# Altium integrated library WD Video Controller.IntLib: 21 symbols
Pins are listed as number, name and electrical type; pins without a type are passive.

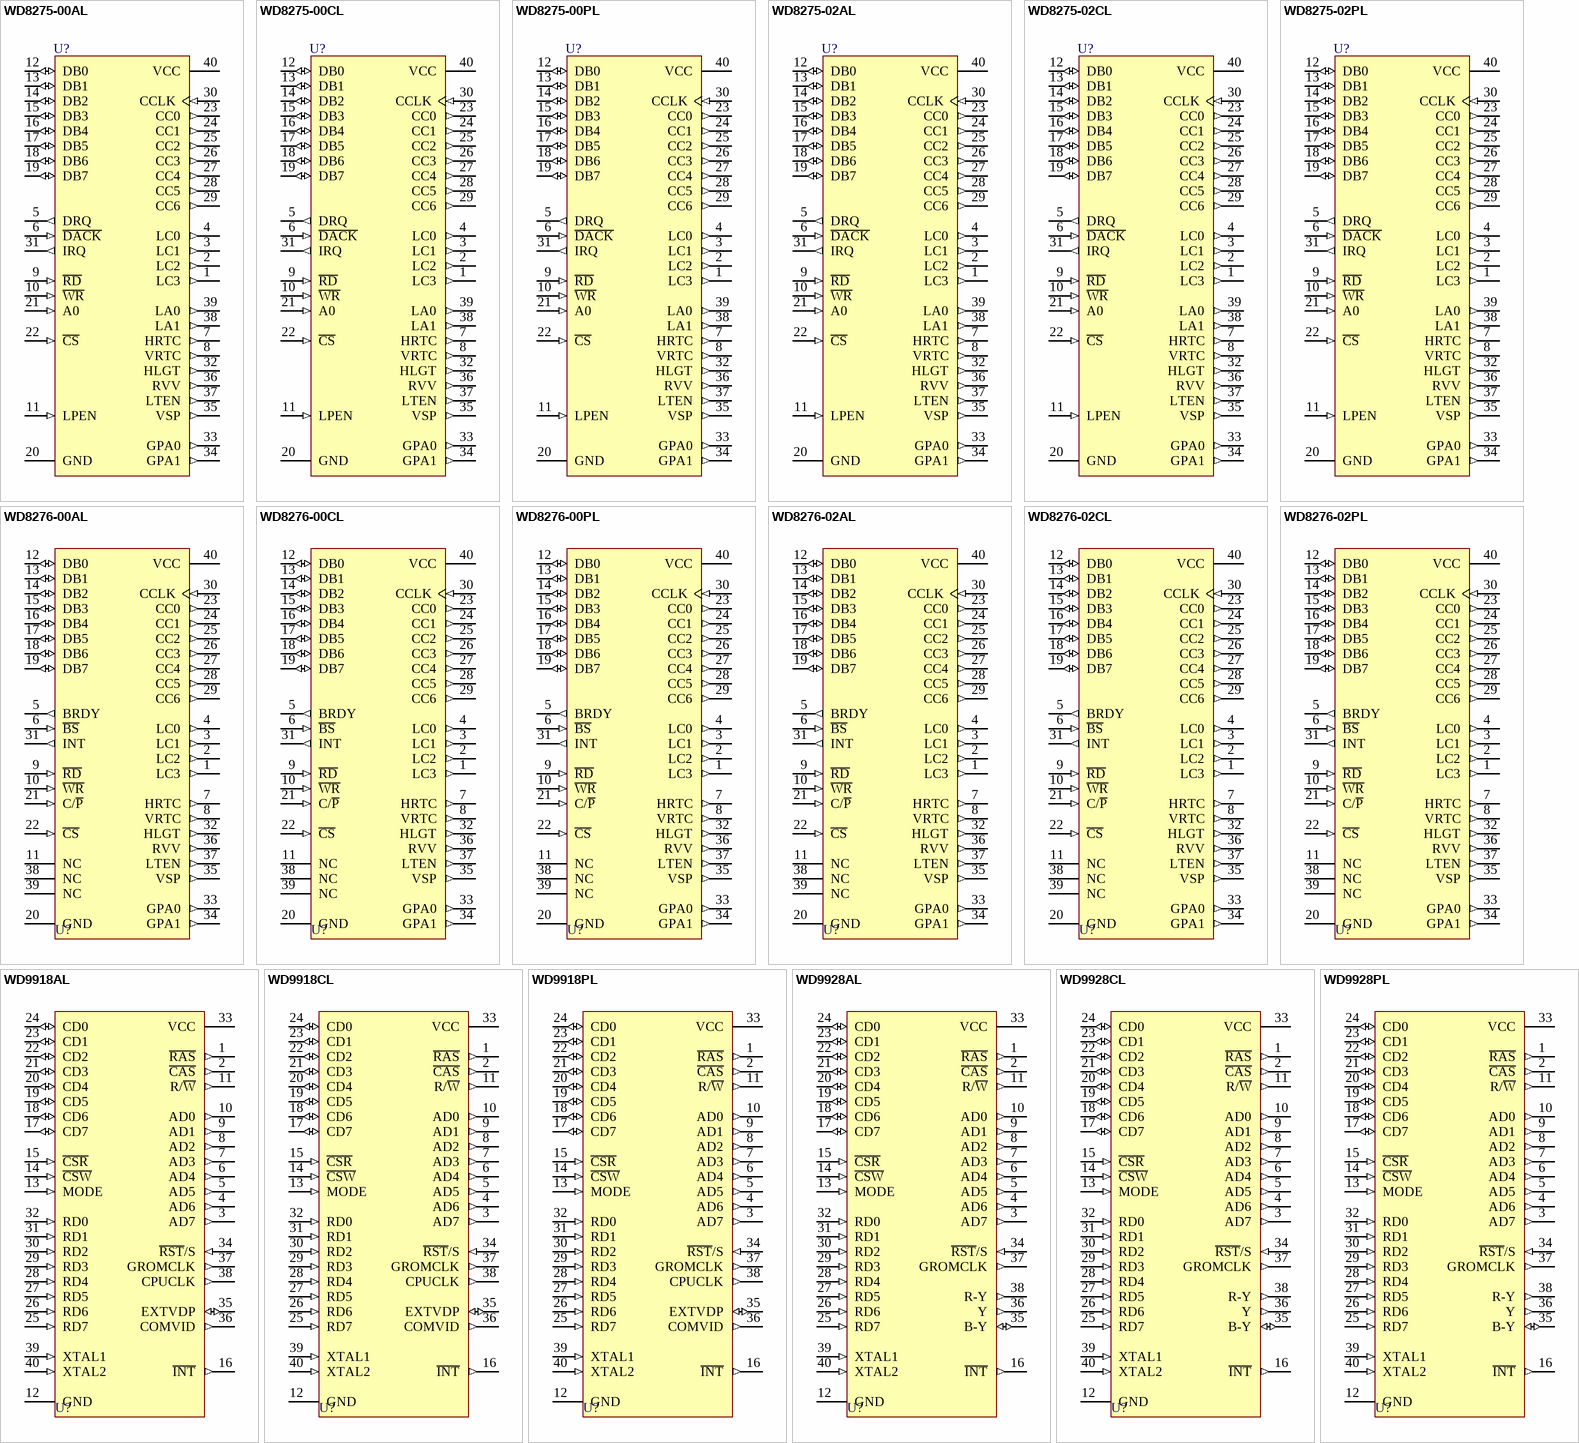
[diagram p0: symbols WD8275-00AL to WD9928PL]

## WD8275-00AL
designator U?
Programmable CRT Controller; PackageDocument: 1984; Published: 8-Jun-2000; LatestRevisionDate: 4-Mar-2005; LatestRevisionNote: Stylized 3D Model Added.; DatasheetDocument: 1984; PackageReference: AL40; Publisher: Altium Limited; ComponentLink1Description: Manufacturer Link; ComponentLink1URL: http://www.wdc.com/
footprint AL40 (DIP; 40 Leads; Row Spacing 15.24 mm; Pitch 2.54 mm)
3D model AL40 (DIP; 40 Leads; Row Spacing 15.24 mm; Pitch 2.54 mm)
pins: 1 LC3 (out), 2 LC2 (out), 3 LC1 (out), 4 LC0 (out), 5 DRQ (out), 6 ~{DACK} (in), 7 HRTC (out), 8 VRTC (out), 9 ~{RD} (in), 10 ~{WR} (in), 11 LPEN (in), 12 DB0 (io), 13 DB1 (io), 14 DB2 (io), 15 DB3 (io), 16 DB4 (io), 17 DB5 (io), 18 DB6 (io), 19 DB7 (io), 20 GND (power), 21 A0 (in), 22 ~{CS} (in), 23 CC0 (out), 24 CC1 (out), 25 CC2 (out), 26 CC3 (out), 27 CC4 (out), 28 CC5 (out), 29 CC6 (out), 30 CCLK (in), 31 IRQ (out), 32 HLGT (out), 33 GPA0 (out), 34 GPA1 (out), 35 VSP (out), 36 RVV (out), 37 LTEN (out), 38 LA1 (out), 39 LA0 (out), 40 VCC (power)

## WD8275-00CL
designator U?
Programmable CRT Controller; PackageDocument: 1984; Published: 8-Jun-2000; LatestRevisionDate: 4-Mar-2005; LatestRevisionNote: Stylized 3D Model Added.; DatasheetDocument: 1984; PackageReference: CL40; Publisher: Altium Limited; ComponentLink1Description: Manufacturer Link; ComponentLink1URL: http://www.wdc.com/
footprint CL40 (DIP; 40 Leads; Row Spacing 15.24 mm; Pitch 2.54 mm)
3D model PL40 (DIP; 40 Leads; Row Spacing 15.24 mm; Pitch 2.54 mm)
pins: 1 LC3 (out), 2 LC2 (out), 3 LC1 (out), 4 LC0 (out), 5 DRQ (out), 6 ~{DACK} (in), 7 HRTC (out), 8 VRTC (out), 9 ~{RD} (in), 10 ~{WR} (in), 11 LPEN (in), 12 DB0 (io), 13 DB1 (io), 14 DB2 (io), 15 DB3 (io), 16 DB4 (io), 17 DB5 (io), 18 DB6 (io), 19 DB7 (io), 20 GND (power), 21 A0 (in), 22 ~{CS} (in), 23 CC0 (out), 24 CC1 (out), 25 CC2 (out), 26 CC3 (out), 27 CC4 (out), 28 CC5 (out), 29 CC6 (out), 30 CCLK (in), 31 IRQ (out), 32 HLGT (out), 33 GPA0 (out), 34 GPA1 (out), 35 VSP (out), 36 RVV (out), 37 LTEN (out), 38 LA1 (out), 39 LA0 (out), 40 VCC (power)

## WD8275-00PL
designator U?
Programmable CRT Controller; PackageDocument: 1984; Published: 8-Jun-2000; LatestRevisionDate: 4-Mar-2005; LatestRevisionNote: Stylized 3D Model Added.; DatasheetDocument: 1984; PackageReference: PL40; Publisher: Altium Limited; ComponentLink1Description: Manufacturer Link; ComponentLink1URL: http://www.wdc.com/
footprint PL40 (DIP; 40 Leads; Row Spacing 15.24 mm; Pitch 2.54 mm)
3D model PL40 (DIP; 40 Leads; Row Spacing 15.24 mm; Pitch 2.54 mm)
pins: 1 LC3 (out), 2 LC2 (out), 3 LC1 (out), 4 LC0 (out), 5 DRQ (out), 6 ~{DACK} (in), 7 HRTC (out), 8 VRTC (out), 9 ~{RD} (in), 10 ~{WR} (in), 11 LPEN (in), 12 DB0 (io), 13 DB1 (io), 14 DB2 (io), 15 DB3 (io), 16 DB4 (io), 17 DB5 (io), 18 DB6 (io), 19 DB7 (io), 20 GND (power), 21 A0 (in), 22 ~{CS} (in), 23 CC0 (out), 24 CC1 (out), 25 CC2 (out), 26 CC3 (out), 27 CC4 (out), 28 CC5 (out), 29 CC6 (out), 30 CCLK (in), 31 IRQ (out), 32 HLGT (out), 33 GPA0 (out), 34 GPA1 (out), 35 VSP (out), 36 RVV (out), 37 LTEN (out), 38 LA1 (out), 39 LA0 (out), 40 VCC (power)

## WD8275-02AL
designator U?
Programmable CRT Controller; PackageDocument: 1984; Published: 8-Jun-2000; LatestRevisionDate: 4-Mar-2005; LatestRevisionNote: Stylized 3D Model Added.; DatasheetDocument: 1984; PackageReference: AL40; Publisher: Altium Limited; ComponentLink1Description: Manufacturer Link; ComponentLink1URL: http://www.wdc.com/
footprint AL40 (DIP; 40 Leads; Row Spacing 15.24 mm; Pitch 2.54 mm)
3D model AL40 (DIP; 40 Leads; Row Spacing 15.24 mm; Pitch 2.54 mm)
pins: 1 LC3 (out), 2 LC2 (out), 3 LC1 (out), 4 LC0 (out), 5 DRQ (out), 6 ~{DACK} (in), 7 HRTC (out), 8 VRTC (out), 9 ~{RD} (in), 10 ~{WR} (in), 11 LPEN (in), 12 DB0 (io), 13 DB1 (io), 14 DB2 (io), 15 DB3 (io), 16 DB4 (io), 17 DB5 (io), 18 DB6 (io), 19 DB7 (io), 20 GND (power), 21 A0 (in), 22 ~{CS} (in), 23 CC0 (out), 24 CC1 (out), 25 CC2 (out), 26 CC3 (out), 27 CC4 (out), 28 CC5 (out), 29 CC6 (out), 30 CCLK (in), 31 IRQ (out), 32 HLGT (out), 33 GPA0 (out), 34 GPA1 (out), 35 VSP (out), 36 RVV (out), 37 LTEN (out), 38 LA1 (out), 39 LA0 (out), 40 VCC (power)

## WD8275-02CL
designator U?
Programmable CRT Controller; PackageDocument: 1984; Published: 8-Jun-2000; LatestRevisionDate: 4-Mar-2005; LatestRevisionNote: Stylized 3D Model Added.; DatasheetDocument: 1984; PackageReference: CL40; Publisher: Altium Limited; ComponentLink1Description: Manufacturer Link; ComponentLink1URL: http://www.wdc.com/
footprint CL40 (DIP; 40 Leads; Row Spacing 15.24 mm; Pitch 2.54 mm)
3D model PL40 (DIP; 40 Leads; Row Spacing 15.24 mm; Pitch 2.54 mm)
pins: 1 LC3 (out), 2 LC2 (out), 3 LC1 (out), 4 LC0 (out), 5 DRQ (out), 6 ~{DACK} (in), 7 HRTC (out), 8 VRTC (out), 9 ~{RD} (in), 10 ~{WR} (in), 11 LPEN (in), 12 DB0 (io), 13 DB1 (io), 14 DB2 (io), 15 DB3 (io), 16 DB4 (io), 17 DB5 (io), 18 DB6 (io), 19 DB7 (io), 20 GND (power), 21 A0 (in), 22 ~{CS} (in), 23 CC0 (out), 24 CC1 (out), 25 CC2 (out), 26 CC3 (out), 27 CC4 (out), 28 CC5 (out), 29 CC6 (out), 30 CCLK (in), 31 IRQ (out), 32 HLGT (out), 33 GPA0 (out), 34 GPA1 (out), 35 VSP (out), 36 RVV (out), 37 LTEN (out), 38 LA1 (out), 39 LA0 (out), 40 VCC (power)

## WD8275-02PL
designator U?
Programmable CRT Controller; PackageDocument: 1984; Published: 8-Jun-2000; LatestRevisionDate: 4-Mar-2005; LatestRevisionNote: Stylized 3D Model Added.; DatasheetDocument: 1984; PackageReference: PL40; Publisher: Altium Limited; ComponentLink1Description: Manufacturer Link; ComponentLink1URL: http://www.wdc.com/
footprint PL40 (DIP; 40 Leads; Row Spacing 15.24 mm; Pitch 2.54 mm)
3D model PL40 (DIP; 40 Leads; Row Spacing 15.24 mm; Pitch 2.54 mm)
pins: 1 LC3 (out), 2 LC2 (out), 3 LC1 (out), 4 LC0 (out), 5 DRQ (out), 6 ~{DACK} (in), 7 HRTC (out), 8 VRTC (out), 9 ~{RD} (in), 10 ~{WR} (in), 11 LPEN (in), 12 DB0 (io), 13 DB1 (io), 14 DB2 (io), 15 DB3 (io), 16 DB4 (io), 17 DB5 (io), 18 DB6 (io), 19 DB7 (io), 20 GND (power), 21 A0 (in), 22 ~{CS} (in), 23 CC0 (out), 24 CC1 (out), 25 CC2 (out), 26 CC3 (out), 27 CC4 (out), 28 CC5 (out), 29 CC6 (out), 30 CCLK (in), 31 IRQ (out), 32 HLGT (out), 33 GPA0 (out), 34 GPA1 (out), 35 VSP (out), 36 RVV (out), 37 LTEN (out), 38 LA1 (out), 39 LA0 (out), 40 VCC (power)

## WD8276-00AL
designator U?
Small System CRT Controller; PackageDocument: 1984; Published: 8-Jun-2000; LatestRevisionDate: 4-Mar-2005; LatestRevisionNote: Stylized 3D Model Added.; DatasheetDocument: 1984; PackageReference: AL40; Publisher: Altium Limited; ComponentLink1Description: Manufacturer Link; ComponentLink1URL: http://www.wdc.com/
footprint AL40 (DIP; 40 Leads; Row Spacing 15.24 mm; Pitch 2.54 mm)
3D model AL40 (DIP; 40 Leads; Row Spacing 15.24 mm; Pitch 2.54 mm)
pins: 1 LC3 (out), 2 LC2 (out), 3 LC1 (out), 4 LC0 (out), 5 BRDY (out), 6 ~{BS} (in), 7 HRTC (out), 8 VRTC (out), 9 ~{RD} (in), 10 ~{WR} (in), 11 NC, 12 DB0 (io), 13 DB1 (io), 14 DB2 (io), 15 DB3 (io), 16 DB4 (io), 17 DB5 (io), 18 DB6 (io), 19 DB7 (io), 20 GND (power), 21 C/~{P} (in), 22 ~{CS} (in), 23 CC0 (out), 24 CC1 (out), 25 CC2 (out), 26 CC3 (out), 27 CC4 (out), 28 CC5 (out), 29 CC6 (out), 30 CCLK (in), 31 INT (out), 32 HLGT (out), 33 GPA0 (out), 34 GPA1 (out), 35 VSP (out), 36 RVV (out), 37 LTEN (out), 38 NC, 39 NC, 40 VCC (power)

## WD8276-00CL
designator U?
Small System CRT Controller; PackageDocument: 1984; Published: 8-Jun-2000; LatestRevisionDate: 4-Mar-2005; LatestRevisionNote: Stylized 3D Model Added.; DatasheetDocument: 1984; PackageReference: CL40; Publisher: Altium Limited; ComponentLink1Description: Manufacturer Link; ComponentLink1URL: http://www.wdc.com/
footprint CL40 (DIP; 40 Leads; Row Spacing 15.24 mm; Pitch 2.54 mm)
3D model PL40 (DIP; 40 Leads; Row Spacing 15.24 mm; Pitch 2.54 mm)
pins: 1 LC3 (out), 2 LC2 (out), 3 LC1 (out), 4 LC0 (out), 5 BRDY (out), 6 ~{BS} (in), 7 HRTC (out), 8 VRTC (out), 9 ~{RD} (in), 10 ~{WR} (in), 11 NC, 12 DB0 (io), 13 DB1 (io), 14 DB2 (io), 15 DB3 (io), 16 DB4 (io), 17 DB5 (io), 18 DB6 (io), 19 DB7 (io), 20 GND (power), 21 C/~{P} (in), 22 ~{CS} (in), 23 CC0 (out), 24 CC1 (out), 25 CC2 (out), 26 CC3 (out), 27 CC4 (out), 28 CC5 (out), 29 CC6 (out), 30 CCLK (in), 31 INT (out), 32 HLGT (out), 33 GPA0 (out), 34 GPA1 (out), 35 VSP (out), 36 RVV (out), 37 LTEN (out), 38 NC, 39 NC, 40 VCC (power)

## WD8276-00PL
designator U?
Small System CRT Controller; PackageDocument: 1984; Published: 8-Jun-2000; LatestRevisionDate: 4-Mar-2005; LatestRevisionNote: Stylized 3D Model Added.; DatasheetDocument: 1984; PackageReference: PL40; Publisher: Altium Limited; ComponentLink1Description: Manufacturer Link; ComponentLink1URL: http://www.wdc.com/
footprint PL40 (DIP; 40 Leads; Row Spacing 15.24 mm; Pitch 2.54 mm)
3D model PL40 (DIP; 40 Leads; Row Spacing 15.24 mm; Pitch 2.54 mm)
pins: 1 LC3 (out), 2 LC2 (out), 3 LC1 (out), 4 LC0 (out), 5 BRDY (out), 6 ~{BS} (in), 7 HRTC (out), 8 VRTC (out), 9 ~{RD} (in), 10 ~{WR} (in), 11 NC, 12 DB0 (io), 13 DB1 (io), 14 DB2 (io), 15 DB3 (io), 16 DB4 (io), 17 DB5 (io), 18 DB6 (io), 19 DB7 (io), 20 GND (power), 21 C/~{P} (in), 22 ~{CS} (in), 23 CC0 (out), 24 CC1 (out), 25 CC2 (out), 26 CC3 (out), 27 CC4 (out), 28 CC5 (out), 29 CC6 (out), 30 CCLK (in), 31 INT (out), 32 HLGT (out), 33 GPA0 (out), 34 GPA1 (out), 35 VSP (out), 36 RVV (out), 37 LTEN (out), 38 NC, 39 NC, 40 VCC (power)

## WD8276-02AL
designator U?
Small System CRT Controller; PackageDocument: 1984; Published: 8-Jun-2000; LatestRevisionDate: 4-Mar-2005; LatestRevisionNote: Stylized 3D Model Added.; DatasheetDocument: 1984; PackageReference: AL40; Publisher: Altium Limited; ComponentLink1Description: Manufacturer Link; ComponentLink1URL: http://www.wdc.com/
footprint AL40 (DIP; 40 Leads; Row Spacing 15.24 mm; Pitch 2.54 mm)
3D model AL40 (DIP; 40 Leads; Row Spacing 15.24 mm; Pitch 2.54 mm)
pins: 1 LC3 (out), 2 LC2 (out), 3 LC1 (out), 4 LC0 (out), 5 BRDY (out), 6 ~{BS} (in), 7 HRTC (out), 8 VRTC (out), 9 ~{RD} (in), 10 ~{WR} (in), 11 NC, 12 DB0 (io), 13 DB1 (io), 14 DB2 (io), 15 DB3 (io), 16 DB4 (io), 17 DB5 (io), 18 DB6 (io), 19 DB7 (io), 20 GND (power), 21 C/~{P} (in), 22 ~{CS} (in), 23 CC0 (out), 24 CC1 (out), 25 CC2 (out), 26 CC3 (out), 27 CC4 (out), 28 CC5 (out), 29 CC6 (out), 30 CCLK (in), 31 INT (out), 32 HLGT (out), 33 GPA0 (out), 34 GPA1 (out), 35 VSP (out), 36 RVV (out), 37 LTEN (out), 38 NC, 39 NC, 40 VCC (power)

## WD8276-02CL
designator U?
Small System CRT Controller; PackageDocument: 1984; Published: 8-Jun-2000; LatestRevisionDate: 4-Mar-2005; LatestRevisionNote: Stylized 3D Model Added.; DatasheetDocument: 1984; PackageReference: CL40; Publisher: Altium Limited; ComponentLink1Description: Manufacturer Link; ComponentLink1URL: http://www.wdc.com/
footprint CL40 (DIP; 40 Leads; Row Spacing 15.24 mm; Pitch 2.54 mm)
3D model PL40 (DIP; 40 Leads; Row Spacing 15.24 mm; Pitch 2.54 mm)
pins: 1 LC3 (out), 2 LC2 (out), 3 LC1 (out), 4 LC0 (out), 5 BRDY (out), 6 ~{BS} (in), 7 HRTC (out), 8 VRTC (out), 9 ~{RD} (in), 10 ~{WR} (in), 11 NC, 12 DB0 (io), 13 DB1 (io), 14 DB2 (io), 15 DB3 (io), 16 DB4 (io), 17 DB5 (io), 18 DB6 (io), 19 DB7 (io), 20 GND (power), 21 C/~{P} (in), 22 ~{CS} (in), 23 CC0 (out), 24 CC1 (out), 25 CC2 (out), 26 CC3 (out), 27 CC4 (out), 28 CC5 (out), 29 CC6 (out), 30 CCLK (in), 31 INT (out), 32 HLGT (out), 33 GPA0 (out), 34 GPA1 (out), 35 VSP (out), 36 RVV (out), 37 LTEN (out), 38 NC, 39 NC, 40 VCC (power)

## WD8276-02PL
designator U?
Small System CRT Controller; PackageDocument: 1984; Published: 8-Jun-2000; LatestRevisionDate: 4-Mar-2005; LatestRevisionNote: Stylized 3D Model Added.; DatasheetDocument: 1984; PackageReference: PL40; Publisher: Altium Limited; ComponentLink1Description: Manufacturer Link; ComponentLink1URL: http://www.wdc.com/
footprint PL40 (DIP; 40 Leads; Row Spacing 15.24 mm; Pitch 2.54 mm)
3D model PL40 (DIP; 40 Leads; Row Spacing 15.24 mm; Pitch 2.54 mm)
pins: 1 LC3 (out), 2 LC2 (out), 3 LC1 (out), 4 LC0 (out), 5 BRDY (out), 6 ~{BS} (in), 7 HRTC (out), 8 VRTC (out), 9 ~{RD} (in), 10 ~{WR} (in), 11 NC, 12 DB0 (io), 13 DB1 (io), 14 DB2 (io), 15 DB3 (io), 16 DB4 (io), 17 DB5 (io), 18 DB6 (io), 19 DB7 (io), 20 GND (power), 21 C/~{P} (in), 22 ~{CS} (in), 23 CC0 (out), 24 CC1 (out), 25 CC2 (out), 26 CC3 (out), 27 CC4 (out), 28 CC5 (out), 29 CC6 (out), 30 CCLK (in), 31 INT (out), 32 HLGT (out), 33 GPA0 (out), 34 GPA1 (out), 35 VSP (out), 36 RVV (out), 37 LTEN (out), 38 NC, 39 NC, 40 VCC (power)

## WD9918AL
designator U?
Video Display Processor; PackageDocument: 1984; Published: 8-Jun-2000; LatestRevisionDate: 4-Mar-2005; LatestRevisionNote: Stylized 3D Model Added.; DatasheetDocument: 1984; PackageReference: AL40; Publisher: Altium Limited; ComponentLink1Description: Manufacturer Link; ComponentLink1URL: http://www.wdc.com/
footprint AL40 (DIP; 40 Leads; Row Spacing 15.24 mm; Pitch 2.54 mm)
3D model AL40 (DIP; 40 Leads; Row Spacing 15.24 mm; Pitch 2.54 mm)
pins: 1 ~{RAS} (out), 2 ~{CAS} (out), 3 AD7 (out), 4 AD6 (out), 5 AD5 (out), 6 AD4 (out), 7 AD3 (out), 8 AD2 (out), 9 AD1 (out), 10 AD0 (out), 11 R/~{W} (out), 12 GND (power), 13 MODE (in), 14 ~{CSW} (in), 15 ~{CSR} (in), 16 ~{INT} (out), 17 CD7 (io), 18 CD6 (io), 19 CD5 (io), 20 CD4 (io), 21 CD3 (io), 22 CD2 (io), 23 CD1 (io), 24 CD0 (io), 25 RD7 (in), 26 RD6 (in), 27 RD5 (in), 28 RD4 (in), 29 RD3 (in), 30 RD2 (in), 31 RD1 (in), 32 RD0 (in), 33 VCC (power), 34 ~{RST}/S (in), 35 EXTVDP (io), 36 COMVID (out), 37 GROMCLK (out), 38 CPUCLK (out), 39 XTAL1 (in), 40 XTAL2 (in)

## WD9918CL
designator U?
Video Display Processor; PackageDocument: 1984; Published: 8-Jun-2000; LatestRevisionDate: 4-Mar-2005; LatestRevisionNote: Stylized 3D Model Added.; DatasheetDocument: 1984; PackageReference: CL40; Publisher: Altium Limited; ComponentLink1Description: Manufacturer Link; ComponentLink1URL: http://www.wdc.com/
footprint CL40 (DIP; 40 Leads; Row Spacing 15.24 mm; Pitch 2.54 mm)
3D model PL40 (DIP; 40 Leads; Row Spacing 15.24 mm; Pitch 2.54 mm)
pins: 1 ~{RAS} (out), 2 ~{CAS} (out), 3 AD7 (out), 4 AD6 (out), 5 AD5 (out), 6 AD4 (out), 7 AD3 (out), 8 AD2 (out), 9 AD1 (out), 10 AD0 (out), 11 R/~{W} (out), 12 GND (power), 13 MODE (in), 14 ~{CSW} (in), 15 ~{CSR} (in), 16 ~{INT} (out), 17 CD7 (io), 18 CD6 (io), 19 CD5 (io), 20 CD4 (io), 21 CD3 (io), 22 CD2 (io), 23 CD1 (io), 24 CD0 (io), 25 RD7 (in), 26 RD6 (in), 27 RD5 (in), 28 RD4 (in), 29 RD3 (in), 30 RD2 (in), 31 RD1 (in), 32 RD0 (in), 33 VCC (power), 34 ~{RST}/S (in), 35 EXTVDP (io), 36 COMVID (out), 37 GROMCLK (out), 38 CPUCLK (out), 39 XTAL1 (in), 40 XTAL2 (in)

## WD9918PL
designator U?
Video Display Processor; PackageDocument: 1984; Published: 8-Jun-2000; LatestRevisionDate: 4-Mar-2005; LatestRevisionNote: Stylized 3D Model Added.; DatasheetDocument: 1984; PackageReference: PL40; Publisher: Altium Limited; ComponentLink1Description: Manufacturer Link; ComponentLink1URL: http://www.wdc.com/
footprint PL40 (DIP; 40 Leads; Row Spacing 15.24 mm; Pitch 2.54 mm)
3D model PL40 (DIP; 40 Leads; Row Spacing 15.24 mm; Pitch 2.54 mm)
pins: 1 ~{RAS} (out), 2 ~{CAS} (out), 3 AD7 (out), 4 AD6 (out), 5 AD5 (out), 6 AD4 (out), 7 AD3 (out), 8 AD2 (out), 9 AD1 (out), 10 AD0 (out), 11 R/~{W} (out), 12 GND (power), 13 MODE (in), 14 ~{CSW} (in), 15 ~{CSR} (in), 16 ~{INT} (out), 17 CD7 (io), 18 CD6 (io), 19 CD5 (io), 20 CD4 (io), 21 CD3 (io), 22 CD2 (io), 23 CD1 (io), 24 CD0 (io), 25 RD7 (in), 26 RD6 (in), 27 RD5 (in), 28 RD4 (in), 29 RD3 (in), 30 RD2 (in), 31 RD1 (in), 32 RD0 (in), 33 VCC (power), 34 ~{RST}/S (in), 35 EXTVDP (io), 36 COMVID (out), 37 GROMCLK (out), 38 CPUCLK (out), 39 XTAL1 (in), 40 XTAL2 (in)

## WD9928AL
designator U?
Video Display Processor; PackageDocument: 1984; Published: 8-Jun-2000; LatestRevisionDate: 4-Mar-2005; LatestRevisionNote: Stylized 3D Model Added.; DatasheetDocument: 1984; PackageReference: AL40; Publisher: Altium Limited; ComponentLink1Description: Manufacturer Link; ComponentLink1URL: http://www.wdc.com/
footprint AL40 (DIP; 40 Leads; Row Spacing 15.24 mm; Pitch 2.54 mm)
3D model AL40 (DIP; 40 Leads; Row Spacing 15.24 mm; Pitch 2.54 mm)
pins: 1 ~{RAS} (out), 2 ~{CAS} (out), 3 AD7 (out), 4 AD6 (out), 5 AD5 (out), 6 AD4 (out), 7 AD3 (out), 8 AD2 (out), 9 AD1 (out), 10 AD0 (out), 11 R/~{W} (out), 12 GND (power), 13 MODE (in), 14 ~{CSW} (in), 15 ~{CSR} (in), 16 ~{INT} (out), 17 CD7 (io), 18 CD6 (io), 19 CD5 (io), 20 CD4 (io), 21 CD3 (io), 22 CD2 (io), 23 CD1 (io), 24 CD0 (io), 25 RD7 (in), 26 RD6 (in), 27 RD5 (in), 28 RD4 (in), 29 RD3 (in), 30 RD2 (in), 31 RD1 (in), 32 RD0 (in), 33 VCC (power), 34 ~{RST}/S (in), 35 B-Y (io), 36 Y (out), 37 GROMCLK (out), 38 R-Y (out), 39 XTAL1 (in), 40 XTAL2 (in)

## WD9928CL
designator U?
Video Display Processor; PackageDocument: 1984; Published: 8-Jun-2000; LatestRevisionDate: 4-Mar-2005; LatestRevisionNote: Stylized 3D Model Added.; DatasheetDocument: 1984; PackageReference: CL40; Publisher: Altium Limited; ComponentLink1Description: Manufacturer Link; ComponentLink1URL: http://www.wdc.com/
footprint CL40 (DIP; 40 Leads; Row Spacing 15.24 mm; Pitch 2.54 mm)
3D model PL40 (DIP; 40 Leads; Row Spacing 15.24 mm; Pitch 2.54 mm)
pins: 1 ~{RAS} (out), 2 ~{CAS} (out), 3 AD7 (out), 4 AD6 (out), 5 AD5 (out), 6 AD4 (out), 7 AD3 (out), 8 AD2 (out), 9 AD1 (out), 10 AD0 (out), 11 R/~{W} (out), 12 GND (power), 13 MODE (in), 14 ~{CSW} (in), 15 ~{CSR} (in), 16 ~{INT} (out), 17 CD7 (io), 18 CD6 (io), 19 CD5 (io), 20 CD4 (io), 21 CD3 (io), 22 CD2 (io), 23 CD1 (io), 24 CD0 (io), 25 RD7 (in), 26 RD6 (in), 27 RD5 (in), 28 RD4 (in), 29 RD3 (in), 30 RD2 (in), 31 RD1 (in), 32 RD0 (in), 33 VCC (power), 34 ~{RST}/S (in), 35 B-Y (io), 36 Y (out), 37 GROMCLK (out), 38 R-Y (out), 39 XTAL1 (in), 40 XTAL2 (in)

## WD9928PL
designator U?
Video Display Processor; PackageDocument: 1984; Published: 8-Jun-2000; LatestRevisionDate: 4-Mar-2005; LatestRevisionNote: Stylized 3D Model Added.; DatasheetDocument: 1984; PackageReference: PL40; Publisher: Altium Limited; ComponentLink1Description: Manufacturer Link; ComponentLink1URL: http://www.wdc.com/
footprint PL40 (DIP; 40 Leads; Row Spacing 15.24 mm; Pitch 2.54 mm)
3D model PL40 (DIP; 40 Leads; Row Spacing 15.24 mm; Pitch 2.54 mm)
pins: 1 ~{RAS} (out), 2 ~{CAS} (out), 3 AD7 (out), 4 AD6 (out), 5 AD5 (out), 6 AD4 (out), 7 AD3 (out), 8 AD2 (out), 9 AD1 (out), 10 AD0 (out), 11 R/~{W} (out), 12 GND (power), 13 MODE (in), 14 ~{CSW} (in), 15 ~{CSR} (in), 16 ~{INT} (out), 17 CD7 (io), 18 CD6 (io), 19 CD5 (io), 20 CD4 (io), 21 CD3 (io), 22 CD2 (io), 23 CD1 (io), 24 CD0 (io), 25 RD7 (in), 26 RD6 (in), 27 RD5 (in), 28 RD4 (in), 29 RD3 (in), 30 RD2 (in), 31 RD1 (in), 32 RD0 (in), 33 VCC (power), 34 ~{RST}/S (in), 35 B-Y (io), 36 Y (out), 37 GROMCLK (out), 38 R-Y (out), 39 XTAL1 (in), 40 XTAL2 (in)

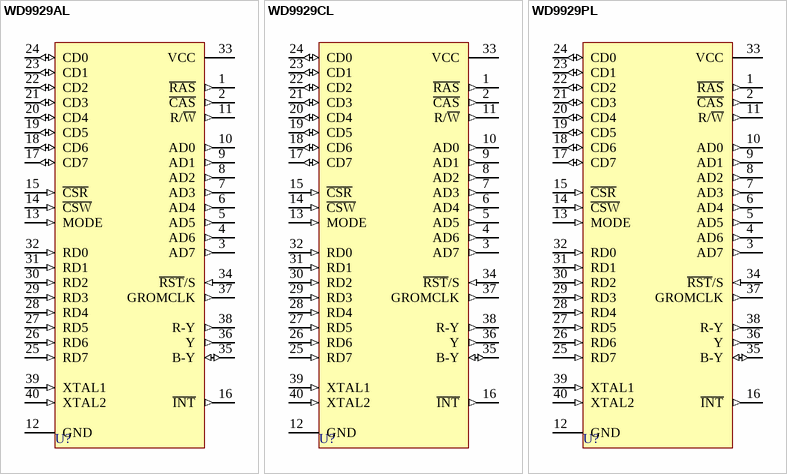
[diagram p1: symbols WD9929AL to WD9929PL]

## WD9929AL
designator U?
Video Display Processor; PackageDocument: 1984; Published: 8-Jun-2000; LatestRevisionDate: 4-Mar-2005; LatestRevisionNote: Stylized 3D Model Added.; DatasheetDocument: 1984; PackageReference: AL40; Publisher: Altium Limited; ComponentLink1Description: Manufacturer Link; ComponentLink1URL: http://www.wdc.com/
footprint AL40 (DIP; 40 Leads; Row Spacing 15.24 mm; Pitch 2.54 mm)
3D model AL40 (DIP; 40 Leads; Row Spacing 15.24 mm; Pitch 2.54 mm)
pins: 1 ~{RAS} (out), 2 ~{CAS} (out), 3 AD7 (out), 4 AD6 (out), 5 AD5 (out), 6 AD4 (out), 7 AD3 (out), 8 AD2 (out), 9 AD1 (out), 10 AD0 (out), 11 R/~{W} (out), 12 GND (power), 13 MODE (in), 14 ~{CSW} (in), 15 ~{CSR} (in), 16 ~{INT} (out), 17 CD7 (io), 18 CD6 (io), 19 CD5 (io), 20 CD4 (io), 21 CD3 (io), 22 CD2 (io), 23 CD1 (io), 24 CD0 (io), 25 RD7 (in), 26 RD6 (in), 27 RD5 (in), 28 RD4 (in), 29 RD3 (in), 30 RD2 (in), 31 RD1 (in), 32 RD0 (in), 33 VCC (power), 34 ~{RST}/S (in), 35 B-Y (io), 36 Y (out), 37 GROMCLK (out), 38 R-Y (out), 39 XTAL1 (in), 40 XTAL2 (in)

## WD9929CL
designator U?
Video Display Processor; PackageDocument: 1984; Published: 8-Jun-2000; LatestRevisionDate: 4-Mar-2005; LatestRevisionNote: Stylized 3D Model Added.; DatasheetDocument: 1984; PackageReference: CL40; Publisher: Altium Limited; ComponentLink1Description: Manufacturer Link; ComponentLink1URL: http://www.wdc.com/
footprint CL40 (DIP; 40 Leads; Row Spacing 15.24 mm; Pitch 2.54 mm)
3D model PL40 (DIP; 40 Leads; Row Spacing 15.24 mm; Pitch 2.54 mm)
pins: 1 ~{RAS} (out), 2 ~{CAS} (out), 3 AD7 (out), 4 AD6 (out), 5 AD5 (out), 6 AD4 (out), 7 AD3 (out), 8 AD2 (out), 9 AD1 (out), 10 AD0 (out), 11 R/~{W} (out), 12 GND (power), 13 MODE (in), 14 ~{CSW} (in), 15 ~{CSR} (in), 16 ~{INT} (out), 17 CD7 (io), 18 CD6 (io), 19 CD5 (io), 20 CD4 (io), 21 CD3 (io), 22 CD2 (io), 23 CD1 (io), 24 CD0 (io), 25 RD7 (in), 26 RD6 (in), 27 RD5 (in), 28 RD4 (in), 29 RD3 (in), 30 RD2 (in), 31 RD1 (in), 32 RD0 (in), 33 VCC (power), 34 ~{RST}/S (in), 35 B-Y (io), 36 Y (out), 37 GROMCLK (out), 38 R-Y (out), 39 XTAL1 (in), 40 XTAL2 (in)

## WD9929PL
designator U?
Video Display Processor; PackageDocument: 1984; Published: 8-Jun-2000; LatestRevisionDate: 4-Mar-2005; LatestRevisionNote: Stylized 3D Model Added.; DatasheetDocument: 1984; PackageReference: PL40; Publisher: Altium Limited; ComponentLink1Description: Manufacturer Link; ComponentLink1URL: http://www.wdc.com/
footprint PL40 (DIP; 40 Leads; Row Spacing 15.24 mm; Pitch 2.54 mm)
3D model PL40 (DIP; 40 Leads; Row Spacing 15.24 mm; Pitch 2.54 mm)
pins: 1 ~{RAS} (out), 2 ~{CAS} (out), 3 AD7 (out), 4 AD6 (out), 5 AD5 (out), 6 AD4 (out), 7 AD3 (out), 8 AD2 (out), 9 AD1 (out), 10 AD0 (out), 11 R/~{W} (out), 12 GND (power), 13 MODE (in), 14 ~{CSW} (in), 15 ~{CSR} (in), 16 ~{INT} (out), 17 CD7 (io), 18 CD6 (io), 19 CD5 (io), 20 CD4 (io), 21 CD3 (io), 22 CD2 (io), 23 CD1 (io), 24 CD0 (io), 25 RD7 (in), 26 RD6 (in), 27 RD5 (in), 28 RD4 (in), 29 RD3 (in), 30 RD2 (in), 31 RD1 (in), 32 RD0 (in), 33 VCC (power), 34 ~{RST}/S (in), 35 B-Y (io), 36 Y (out), 37 GROMCLK (out), 38 R-Y (out), 39 XTAL1 (in), 40 XTAL2 (in)